# EAGLE library part TC74HC04AP (library MRDT-2015-General)
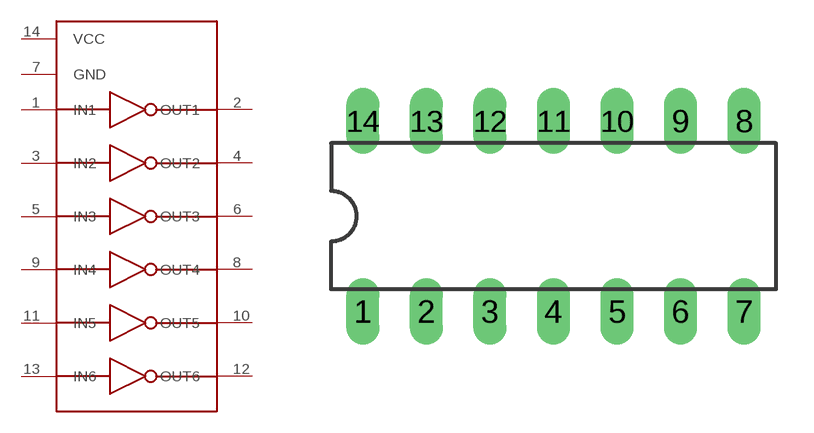
[diagram p15: symbol with the pads of DIP14; footprint DIP14]

Designator prefix -

## TC74HC04AP  [DIP14]
1  IN1
2  OUT1
3  IN2
4  OUT2
5  IN3
6  OUT3
7  GND
8  OUT4
9  IN4
10  OUT5
11  IN5
12  OUT6
13  IN6
14  VCC

## Footprint DIP14 (pad centres in mm)
drill 0.813 long: 1 -7.62,-3.81; 2 -5.08,-3.81; 3 -2.54,-3.81; 4 0,-3.81; 5 2.54,-3.81; 6 5.08,-3.81; 7 7.62,-3.81; 8 7.62,3.81; 9 5.08,3.81; 10 2.54,3.81; 11 0,3.81; 12 -2.54,3.81; 13 -5.08,3.81; 14 -7.62,3.81